# Altium footprint library Male Headers Dual Row.PcbLib: 19 footprints (part 1 of 2)
Each footprint in its own frame and in the unit in brackets; x right, y up, seen from the top. Pads: shape width x height; smd on the part's side, far side on the other; paste and mask are expansions set on the pad; w line width, h text height; cw(c..) or ccw(c..) is an arc to the next point about the centre after c.
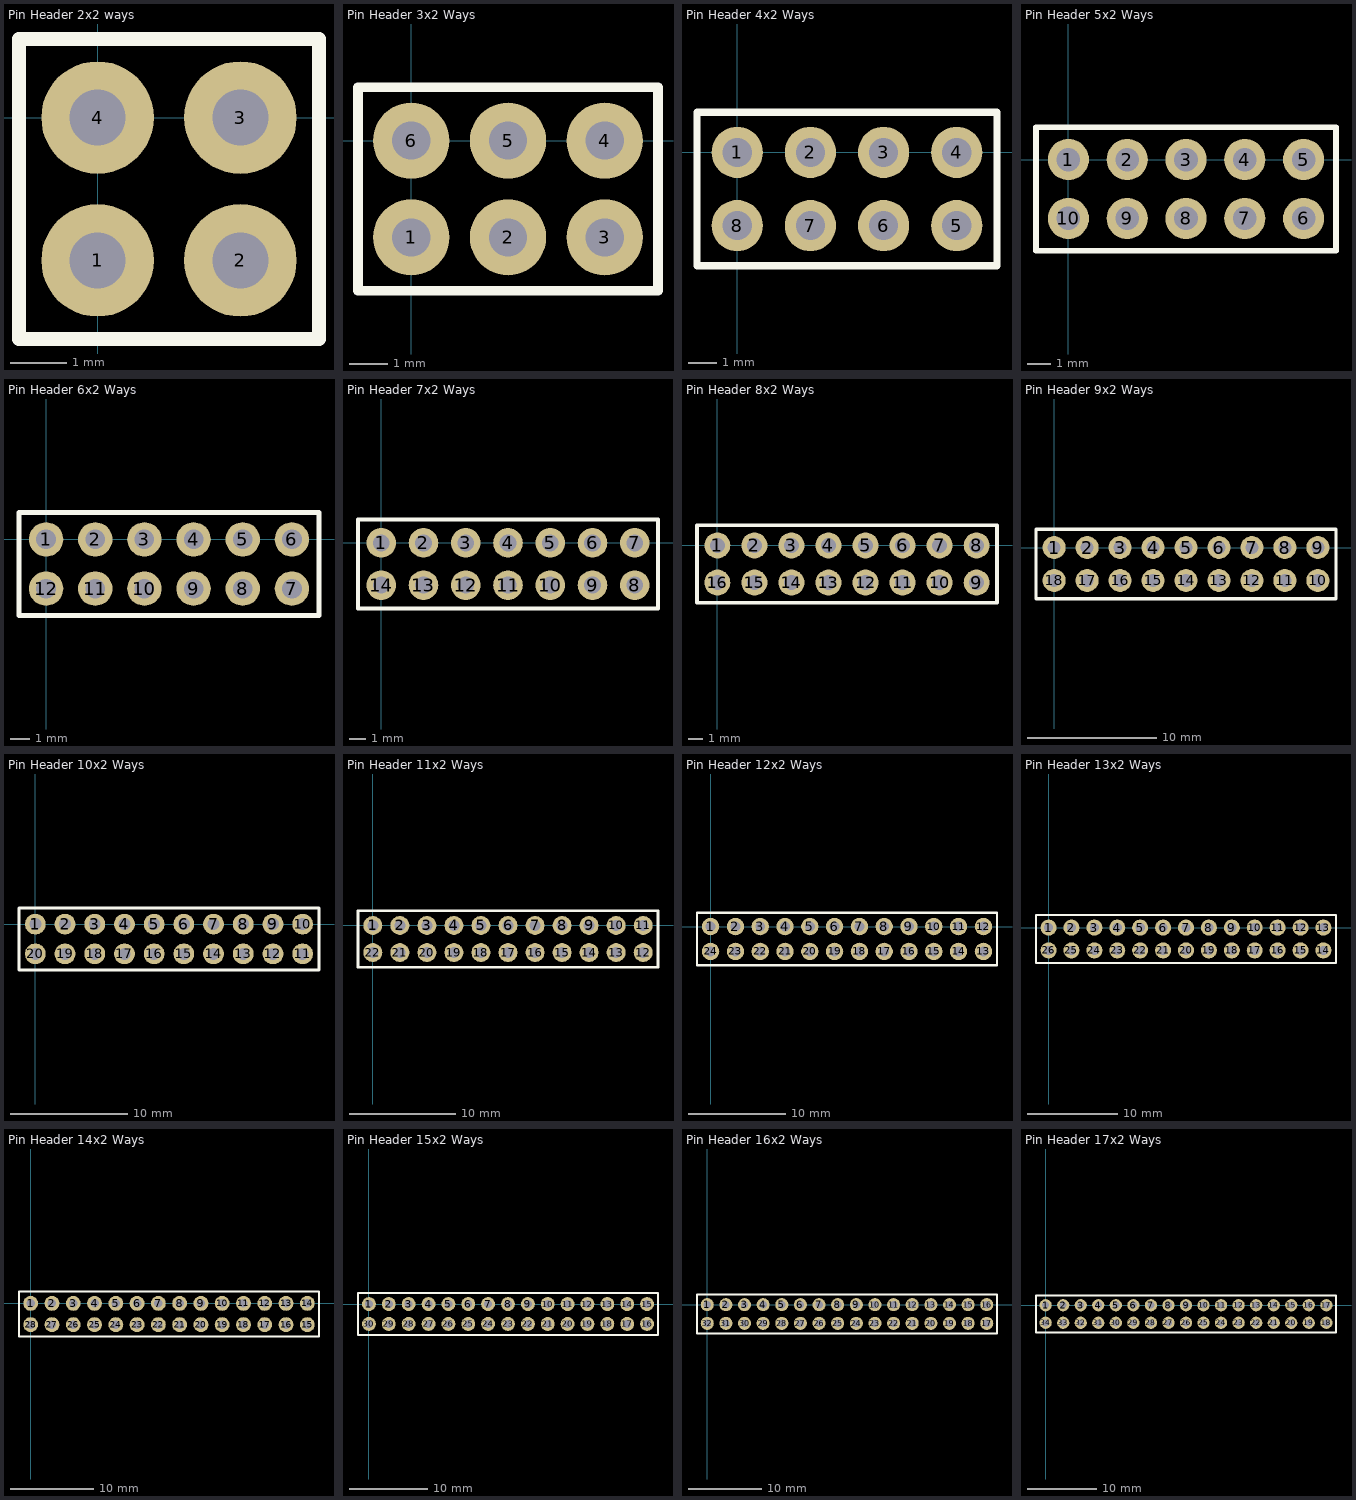
[diagram p0: the footprints below, top view; thin cyan lines are the x and y axes]

## Pin Header 2x2 ways [mm] "Connector Header 2x2 ways PTH 0.100\" (2.54mm)"
pads (4):
  round 2 hole 1: 1(0,-2.54) 2(2.54,-2.54) 3(2.54,0) 4(0,0)
Top Overlay:
  lines w0.254: -1.397,-3.937 3.937,-3.937 3.937,1.397 -1.397,1.397 -1.397,-3.937
3D body "User Library-0_1_inch_double row_pin strip.step": height 10.11, standoff -1.49, extent -1.27,-3.81 3.81,1.27

## Pin Header 3x2 Ways [mm] "Connector Header 3x2 ways PTH 0.100\" (2.54mm)"
pads (6):
  round 2 hole 1: 1(0,-2.54) 2(2.54,-2.54) 3(5.08,-2.54) 4(5.08,0) 5(2.54,0) 6(0,0)
Top Overlay:
  lines w0.254: -1.397,-3.937 6.477,-3.937 6.477,1.397 -1.397,1.397 -1.397,-3.937
3D body "pin strip 3x2 ways.step": height 10.11, standoff -1.49, extent -1.27,-3.81 6.35,1.27

## Pin Header 4x2 Ways [mil] "Connector Header 4x2 ways PTH 0.100\" (2.54mm)"
pads (8):
  round 70 hole 40: 1(0,0) 2(100,0) 3(200,0) 4(300,0) 5(300,-100) 6(200,-100) 7(100,-100) 8(0,-100)
Top Overlay:
  lines w10: -55,-155 -55,55 355,55 355,-155 -55,-155
3D body "pin strip 4x2 ways.step": height 398.14, standoff -58.56, extent -50.01,-150 349.99,50

## Pin Header 5x2 Ways [mil] "Connector Header 5x2 ways PTH 0.100\" (2.54mm)"
pads (10):
  round 70 hole 40: 1(0,0) 2(100,0) 3(200,0) 4(300,0) 5(400,0) 6(400,-100) 7(300,-100) 8(200,-100) 9(100,-100) 10(0,-100)
Top Overlay:
  lines w10: -55,-155 -55,55 455,55 455,-155 -55,-155
3D body "pin strip 5x2 ways.step": height 398.14, standoff -58.56, extent -50,-150 450,50

## Pin Header 6x2 Ways [mil] "Connector Header 6x2 ways PTH 0.100\" (2.54mm)"
pads (12):
  round 70 hole 40: 1(0,0) 2(100,0) 3(200,0) 4(300,0) 5(400,0) 6(500,0) 7(500,-100) 8(400,-100) 9(300,-100) 10(200,-100) 11(100,-100) 12(0,-100)
Top Overlay:
  lines w10: -55,-155 -55,55 555,55 555,-155 -55,-155
3D body "pin strip 6x2 ways.step": height 398.14, standoff -58.56, extent -50,-150 550,50

## Pin Header 7x2 Ways [mil] "Connector Header 7x2 ways PTH 0.100\" (2.54mm)"
pads (14):
  round 70 hole 40: 1(0,0) 2(100,0) 3(200,0) 4(300,0) 5(400,0) 6(500,0) 7(600,0) 8(600,-100) 9(500,-100) 10(400,-100) 11(300,-100) 12(200,-100) 13(100,-100) 14(0,-100)
Top Overlay:
  lines w10: -55,-155 -55,55 655,55 655,-155 -55,-155
3D body "pin strip 7x2 ways.step": height 398.14, standoff -58.56, extent -50.01,-150 649.99,50

## Pin Header 8x2 Ways [mil] "Connector Header 8x2 ways PTH 0.100\" (2.54mm)"
pads (16):
  round 70 hole 40: 1(0,0) 2(100,0) 3(200,0) 4(300,0) 5(400,0) 6(500,0) 7(600,0) 8(700,0) 9(700,-100) 10(600,-100) 11(500,-100) 12(400,-100) 13(300,-100) 14(200,-100) 15(100,-100) 16(0,-100)
Top Overlay:
  lines w10: -55,-155 -55,55 755,55 755,-155 -55,-155
3D body "pin strip 8x2 ways.step": height 398.14, standoff -58.56, extent -50,-150 750,50

## Pin Header 9x2 Ways [mil] "Connector Header 9x2 ways PTH 0.100\" (2.54mm)"
pads (18):
  round 70 hole 40: 1(0,0) 2(100,0) 3(200,0) 4(300,0) 5(400,0) 6(500,0) 7(600,0) 8(700,0) 9(800,0) 10(800,-100) 11(700,-100) 12(600,-100) 13(500,-100) 14(400,-100) 15(300,-100) 16(200,-100) 17(100,-100) 18(0,-100)
Top Overlay:
  lines w10: -55,-155 855,-155 855,55 -55,55 -55,-155
3D body "pin strip 9x2 ways.step": height 398.14, standoff -58.56, extent -50,-150 850,50

## Pin Header 10x2 Ways [mil] "Connector Header 10x2 ways PTH 0.100\" (2.54mm)"
pads (20):
  round 70 hole 40: 1(0,0) 2(100,0) 3(200,0) 4(300,0) 5(400,0) 6(500,0) 7(600,0) 8(700,0) 9(800,0) 10(900,0) 11(900,-100) 12(800,-100) 13(700,-100) 14(600,-100) 15(500,-100) 16(400,-100) 17(300,-100) 18(200,-100) 19(100,-100) 20(0,-100)
Top Overlay:
  lines w10: -55,-155 955,-155 955,55 -55,55 -55,-155
3D body "pin strip 10x2 ways.step": height 39.06, standoff -417.64, extent -50,-150 950,50

## Pin Header 11x2 Ways [mil] "Connector Header 11x2 ways PTH 0.100\" (2.54mm)"
pads (22):
  round 70 hole 40: 1(0,0) 2(100,0) 3(200,0) 4(300,0) 5(400,0) 6(500,0) 7(600,0) 8(700,0) 9(800,0) 10(900,0) 11(1000,0) 12(1000,-100) 13(900,-100) 14(800,-100) 15(700,-100) 16(600,-100) 17(500,-100) 18(400,-100) 19(300,-100) 20(200,-100) 21(100,-100) 22(0,-100)
Top Overlay:
  lines w10: -55,-155 -55,55 1055,55 1055,-155 -55,-155
3D body "pin strip 11x2 ways.step": height 398.14, standoff -58.56, extent -50,-150 1050,50

## Pin Header 12x2 Ways [mil] "Connector Header 12x2 ways PTH 0.100\" (2.54mm)"
pads (24):
  round 70 hole 40: 1(0,0) 2(100,0) 3(200,0) 4(300,0) 5(400,0) 6(500,0) 7(600,0) 8(700,0) 9(800,0) 10(900,0) 11(1000,0) 12(1100,0) 13(1100,-100) 14(1000,-100) 15(900,-100) 16(800,-100) 17(700,-100) 18(600,-100) 19(500,-100) 20(400,-100) 21(300,-100) 22(200,-100) 23(100,-100) 24(0,-100)
Top Overlay:
  lines w10: -55,-155 1155,-155 1155,55 -55,55 -55,-155
3D body "pin strip 12x2 ways.step": height 398.14, standoff -58.56, extent -50,-150 1150,50

## Pin Header 13x2 Ways [mil] "Connector Header 13x2 ways PTH 0.100\" (2.54mm)"
pads (26):
  round 70 hole 40: 1(0,0) 2(100,0) 3(200,0) 4(300,0) 5(400,0) 6(500,0) 7(600,0) 8(700,0) 9(800,0) 10(900,0) 11(1000,0) 12(1100,0) 13(1200,0) 14(1200,-100) 15(1100,-100) 16(1000,-100) 17(900,-100) 18(800,-100) 19(700,-100) 20(600,-100) 21(500,-100) 22(400,-100) 23(300,-100) 24(200,-100) 25(100,-100) 26(0,-100)
Top Overlay:
  lines w10: -55,-155 -55,55 1255,55 1255,-155 -55,-155
3D body "pin strip 13x2 ways.step": height 398.14, standoff -58.56, extent -50,-150 1250,50

## Pin Header 14x2 Ways [mil] "Connector Header 14x2 ways PTH 0.100\" (2.54mm)"
pads (28):
  round 70 hole 40: 1(0,0) 2(100,0) 3(200,0) 4(300,0) 5(400,0) 6(500,0) 7(600,0) 8(700,0) 9(800,0) 10(900,0) 11(1000,0) 12(1100,0) 13(1200,0) 14(1300,0) 15(1300,-100) 16(1200,-100) 17(1100,-100) 18(1000,-100) 19(900,-100) 20(800,-100) 21(700,-100) 22(600,-100) 23(500,-100) 24(400,-100) 25(300,-100) 26(200,-100) 27(100,-100) 28(0,-100)
Top Overlay:
  lines w10: -55,-155 1355,-155 1355,55 -55,55 -55,-155
3D body "pin strip 14x2 ways.step": height 398.14, standoff -58.56, extent -50,-150 1350,50

## Pin Header 15x2 Ways [mil] "Connector Header 15x2 ways PTH 0.100\" (2.54mm)"
pads (30):
  round 70 hole 40: 1(0,0) 2(100,0) 3(200,0) 4(300,0) 5(400,0) 6(500,0) 7(600,0) 8(700,0) 9(800,0) 10(900,0) 11(1000,0) 12(1100,0) 13(1200,0) 14(1300,0) 15(1400,0) 16(1400,-100) 17(1300,-100) 18(1200,-100) 19(1100,-100) 20(1000,-100) 21(900,-100) 22(800,-100) 23(700,-100) 24(600,-100) 25(500,-100) 26(400,-100) 27(300,-100) 28(200,-100) 29(100,-100) 30(0,-100)
Top Overlay:
  lines w10: -55,-155 1455,-155 1455,55 -55,55 -55,-155
3D body "pin strip 15x2 ways.step": height 398.14, standoff -58.56, extent -50,-150 1450,50

## Pin Header 16x2 Ways [mil] "Connector Header 16x2 ways PTH 0.100\" (2.54mm)"
pads (32):
  round 70 hole 40: 1(0,0) 2(100,0) 3(200,0) 4(300,0) 5(400,0) 6(500,0) 7(600,0) 8(700,0) 9(800,0) 10(900,0) 11(1000,0) 12(1100,0) 13(1200,0) 14(1300,0) 15(1400,0) 16(1500,0) 17(1500,-100) 18(1400,-100) 19(1300,-100) 20(1200,-100) 21(1100,-100) 22(1000,-100) 23(900,-100) 24(800,-100) 25(700,-100) 26(600,-100) 27(500,-100) 28(400,-100) 29(300,-100) 30(200,-100) 31(100,-100) 32(0,-100)
Top Overlay:
  lines w10: -55,-155 1555,-155 1555,55 -55,55 -55,-155
3D body "pin strip 16x2 ways.step": height 398.14, standoff -58.56, extent -50,-150 1550,50

## Pin Header 17x2 Ways [mil] "Connector Header 17x2 ways PTH 0.100\" (2.54mm)"
pads (34):
  round 70 hole 40: 1(0,0) 2(100,0) 3(200,0) 4(300,0) 5(400,0) 6(500,0) 7(600,0) 8(700,0) 9(800,0) 10(900,0) 11(1000,0) 12(1100,0) 13(1200,0) 14(1300,0) 15(1400,0) 16(1500,0) 17(1600,0) 18(1600,-100) 19(1500,-100) 20(1400,-100) 21(1300,-100) 22(1200,-100) 23(1100,-100) 24(1000,-100) 25(900,-100) 26(800,-100) 27(700,-100) 28(600,-100) 29(500,-100) 30(400,-100) 31(300,-100) 32(200,-100) 33(100,-100) 34(0,-100)
Top Overlay:
  lines w10: -55,-155 1655,-155 1655,55 -55,55 -55,-155
3D body "pin strip 17x2 ways.step": height 398.14, standoff -58.56, extent -50,-150 1650,50